# Altium integrated library NSC Switcher.IntLib: 2027 symbols (part 39 of 54)
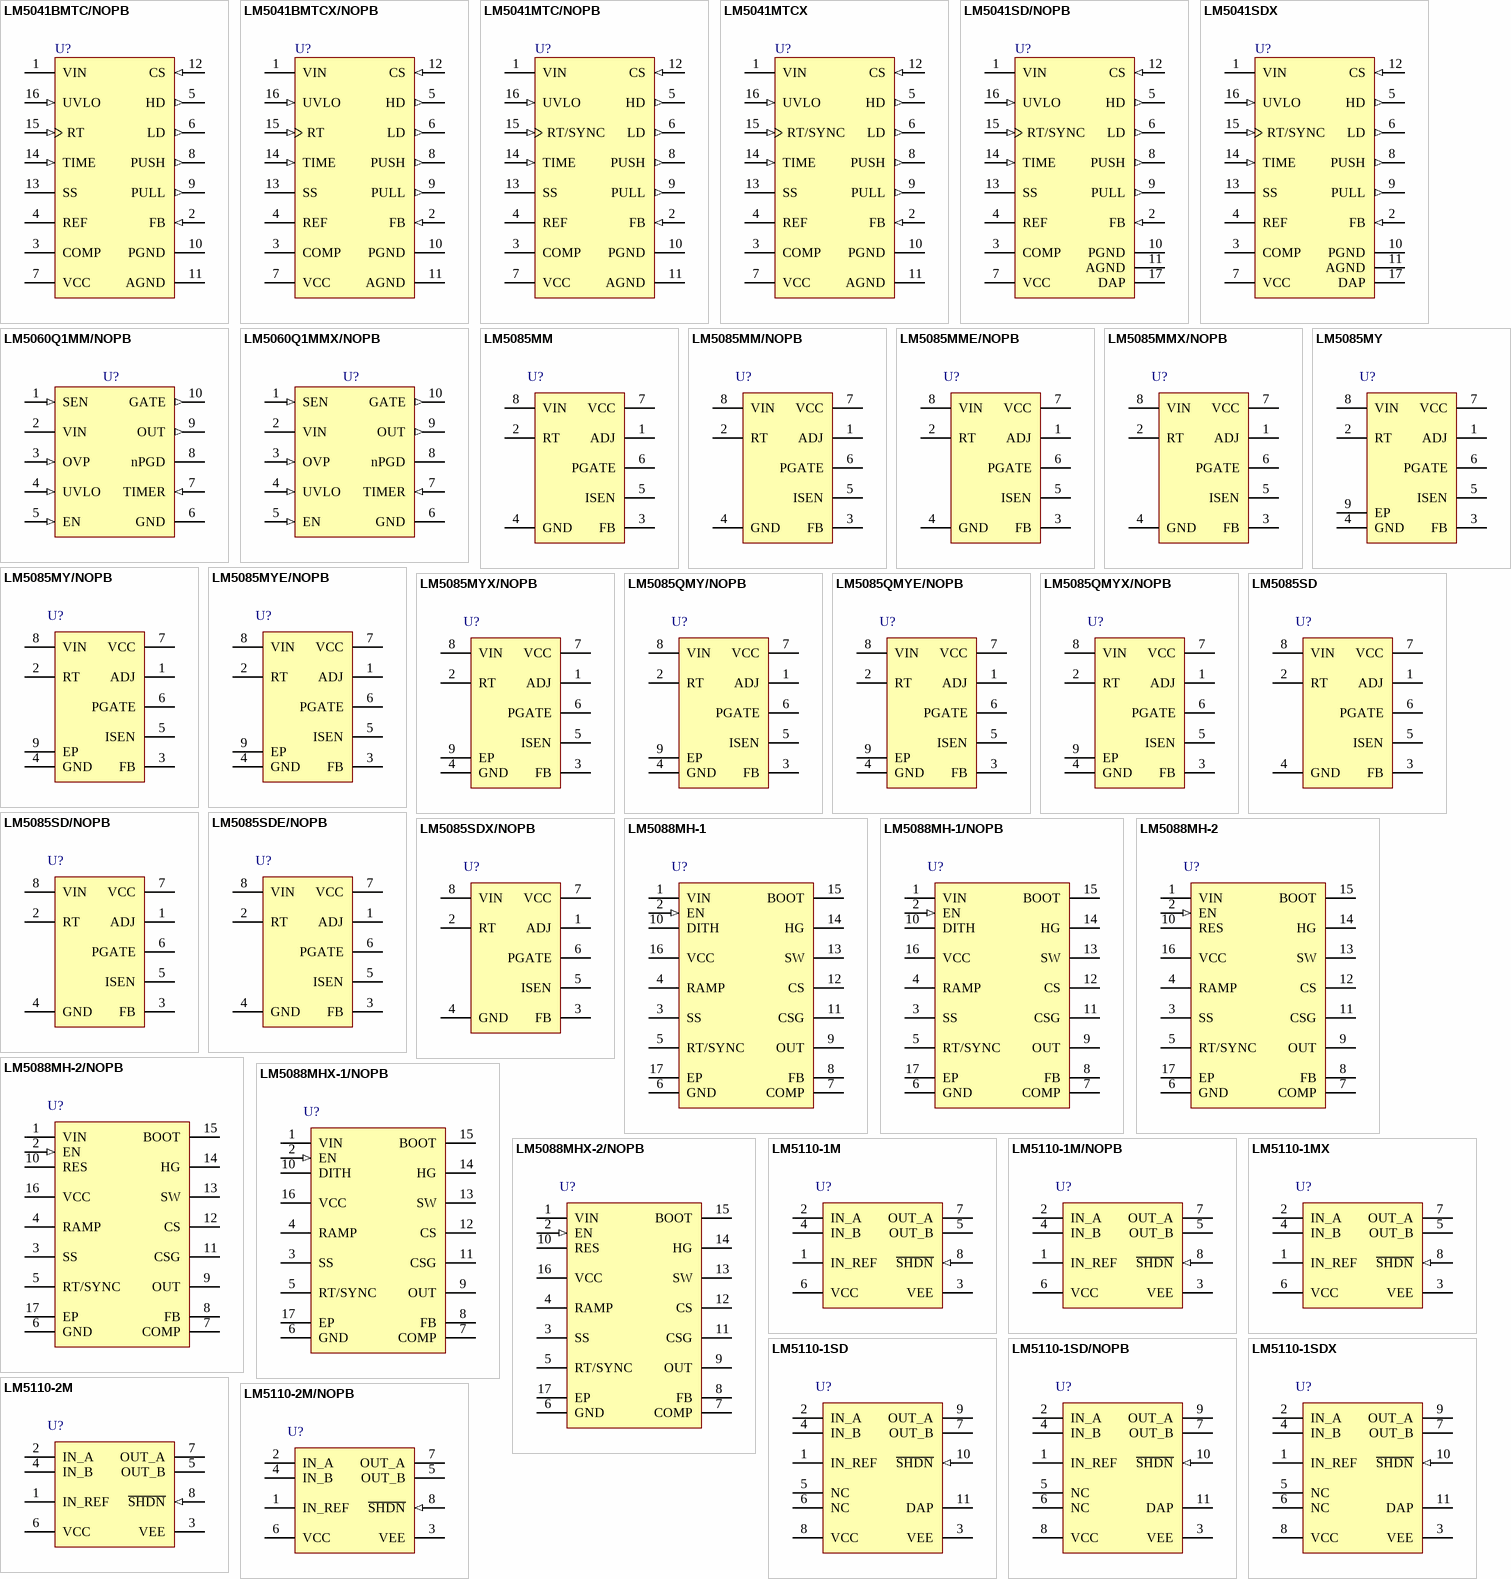
[diagram p101: symbols LM5041BMTC/NOPB to LM5110-2M/NOPB]

## LM5088MH-2
designator U?
Wide Input Range Non-Synchronous Buck Controller, 16-pin TSSOP-EP; PartNumber: LM5088MH-2; Manufacturer: National Semiconductor; PackageTopMarking: NSUZXYTT*LM5088*MH-2; PowerWise: Y; CompType: Switcher; Published: 29-May-2009; DatasheetVersion: Jun-2009; PackageVersion: revA, Apr-2003; PackageReference: MXA16A; Publisher: Altium Limited; PackageDescription: Molded TSSOP, Jedec, Exposed Pad, 5.0 x 4.4 x 0.9mm Body,16 Lead, 0.65mm Pitch; RoHS: Y; PinCount: 16; Code_JEDEC: MO-153-ABT; ComponentLink1Description: LM5088 Datasheet; ComponentLink1URL: http://www.national.com/ds/LM/LM5088.pdf; ComponentLink2Description: LM5088 Web Page; ComponentLink2URL: http://www.national.com/pf/LM/LM5088.html; ComponentLink3Description: MXA16A Package Page; ComponentLink3URL: http://www.national.com/packaging/folders/mxa16a.html
footprint MXA16A_N (TSOP, 16-Leads, Body 5x4.4mm, Pitch 0.65mm, Exposed Pad, IPC Medium Density)
footprint MXA16A_L (TSOP, 16-Leads, Body 5x4.4mm, Pitch 0.65mm, Exposed Pad, IPC High Density)
footprint MXA16A_M (TSOP, 16-Leads, Body 5x4.4mm, Pitch 0.65mm, Exposed Pad, IPC Low Density)
pins: 1 VIN, 2 EN (in), 3 SS, 4 RAMP, 5 RT/SYNC, 6 GND (power), 7 COMP (power), 8 FB (power), 9 OUT, 10 RES, 11 CSG (power), 12 CS, 13 SW (power), 14 HG (power), 15 BOOT, 16 VCC (power), 17 EP

## LM5088MH-2/NOPB
designator U?
Wide Input Range Non-Synchronous Buck Controller, 16-pin TSSOP-EP, Pb-Free; PartNumber: LM5088MH-2/NOPB; Manufacturer: National Semiconductor; PackageTopMarking: NSUZXYTT*LM5088*MH-2; PowerWise: Y; CompType: Switcher; Published: 1-Mar-2010; DatasheetVersion: Jun-2009; PackageVersion: revA, Apr-2003; PackageReference: MXA16A; Publisher: Altium Limited; PackageDescription: Molded TSSOP, Jedec, Exposed Pad, 5.0 x 4.4 x 0.9mm Body,16 Lead, 0.65mm Pitch; Supplier 1: Digi-Key; Supplier Part Number 1: LM5088MH-2-ND; Supplier 2: Farnell; Supplier Part Number 2: 1696600; RoHS: Y; PinCount: 16; Code_JEDEC: MO-153-ABT; ComponentLink1Description: LM5088 Datasheet; ComponentLink1URL: http://www.national.com/ds/LM/LM5088.pdf; ComponentLink2Description: LM5088 Web Page; ComponentLink2URL: http://www.national.com/pf/LM/LM5088.html; ComponentLink3Description: MXA16A Package Page; ComponentLink3URL: http://www.national.com/packaging/folders/mxa16a.html
footprint MXA16A_N (TSOP, 16-Leads, Body 5x4.4mm, Pitch 0.65mm, Exposed Pad, IPC Medium Density)
footprint MXA16A_L (TSOP, 16-Leads, Body 5x4.4mm, Pitch 0.65mm, Exposed Pad, IPC High Density)
footprint MXA16A_M (TSOP, 16-Leads, Body 5x4.4mm, Pitch 0.65mm, Exposed Pad, IPC Low Density)
pins: 1 VIN, 2 EN (in), 3 SS, 4 RAMP, 5 RT/SYNC, 6 GND (power), 7 COMP (power), 8 FB (power), 9 OUT, 10 RES, 11 CSG (power), 12 CS, 13 SW (power), 14 HG (power), 15 BOOT, 16 VCC (power), 17 EP

## LM5088MHX-1/NOPB
designator U?
Wide Input Range Non-Synchronous Buck Controller, 16-pin TSSOP-EP, Pb-Free; PartNumber: LM5088MHX-1/NOPB; Manufacturer: National Semiconductor; PackageTopMarking: NSUZXYTT*LM5088*MH-1; PowerWise: Y; CompType: Switcher; Published: 1-Mar-2010; DatasheetVersion: Jun-2009; PackageVersion: revA, Apr-2003; PackageReference: MXA16A; Publisher: Altium Limited; PackageDescription: Molded TSSOP, Jedec, Exposed Pad, 5.0 x 4.4 x 0.9mm Body,16 Lead, 0.65mm Pitch; Supplier 1: Digi-Key; Supplier Part Number 1: LM5088MHX-1-ND; RoHS: Y; PinCount: 16; Code_JEDEC: MO-153-ABT; ComponentLink1Description: LM5088 Datasheet; ComponentLink1URL: http://www.national.com/ds/LM/LM5088.pdf; ComponentLink2Description: LM5088 Web Page; ComponentLink2URL: http://www.national.com/pf/LM/LM5088.html; ComponentLink3Description: MXA16A Package Page; ComponentLink3URL: http://www.national.com/packaging/folders/mxa16a.html
footprint MXA16A_N (TSOP, 16-Leads, Body 5x4.4mm, Pitch 0.65mm, Exposed Pad, IPC Medium Density)
footprint MXA16A_L (TSOP, 16-Leads, Body 5x4.4mm, Pitch 0.65mm, Exposed Pad, IPC High Density)
footprint MXA16A_M (TSOP, 16-Leads, Body 5x4.4mm, Pitch 0.65mm, Exposed Pad, IPC Low Density)
pins: 1 VIN, 2 EN (in), 3 SS, 4 RAMP, 5 RT/SYNC, 6 GND (power), 7 COMP (power), 8 FB (power), 9 OUT, 10 DITH, 11 CSG (power), 12 CS, 13 SW (power), 14 HG (power), 15 BOOT, 16 VCC (power), 17 EP

## LM5088MHX-2/NOPB
designator U?
Wide Input Range Non-Synchronous Buck Controller, 16-pin TSSOP-EP, Pb-Free; PartNumber: LM5088MHX-2/NOPB; Manufacturer: National Semiconductor; PackageTopMarking: NSUZXYTT*LM5088*MH-2; PowerWise: Y; CompType: Switcher; Published: 1-Mar-2010; DatasheetVersion: Jun-2009; PackageVersion: revA, Apr-2003; PackageReference: MXA16A; Publisher: Altium Limited; PackageDescription: Molded TSSOP, Jedec, Exposed Pad, 5.0 x 4.4 x 0.9mm Body,16 Lead, 0.65mm Pitch; Supplier 1: Digi-Key; Supplier Part Number 1: LM5088MHX-2-ND; RoHS: Y; PinCount: 16; Code_JEDEC: MO-153-ABT; ComponentLink1Description: LM5088 Datasheet; ComponentLink1URL: http://www.national.com/ds/LM/LM5088.pdf; ComponentLink2Description: LM5088 Web Page; ComponentLink2URL: http://www.national.com/pf/LM/LM5088.html; ComponentLink3Description: MXA16A Package Page; ComponentLink3URL: http://www.national.com/packaging/folders/mxa16a.html
footprint MXA16A_N (TSOP, 16-Leads, Body 5x4.4mm, Pitch 0.65mm, Exposed Pad, IPC Medium Density)
footprint MXA16A_L (TSOP, 16-Leads, Body 5x4.4mm, Pitch 0.65mm, Exposed Pad, IPC High Density)
footprint MXA16A_M (TSOP, 16-Leads, Body 5x4.4mm, Pitch 0.65mm, Exposed Pad, IPC Low Density)
pins: 1 VIN, 2 EN (in), 3 SS, 4 RAMP, 5 RT/SYNC, 6 GND (power), 7 COMP (power), 8 FB (power), 9 OUT, 10 RES, 11 CSG (power), 12 CS, 13 SW (power), 14 HG (power), 15 BOOT, 16 VCC (power), 17 EP

## LM5110-1M
designator U?
Dual 5A Compound Gate Driver with Negative Output Voltage Capability, 8-pin Narrow SOIC; PartNumber: LM5110-1M; Manufacturer: National Semiconductor; PackageTopMarking: NSZXTT*5110*-1M; PowerWise: N; CompType: Switcher; Published: 4-Dec-2008; DatasheetVersion: Oct-2003; PackageVersion: revM, May-2009; PackageReference: M08A; Publisher: Altium Limited; PackageDescription: SOIC Narrow, 4.9 x 3.9 x 1.45mm, 8 Lead, 1.27mm Pitch; Supplier 1: Farnell; Supplier Part Number 1: 8181403; RoHS: N; PinCount: 8; Code_JEDEC: MS-012-AA; Code_IPC: SOIC127P600-8; ComponentLink1Description: LM5110 Datasheet; ComponentLink1URL: http://www.national.com/ds/LM/LM5110.pdf; ComponentLink2Description: LM5110 Web Page; ComponentLink2URL: http://www.national.com/pf/LM/LM5110.html; ComponentLink3Description: M08A Package Page; ComponentLink3URL: http://www.national.com/packaging/folders/m08a.html
footprint M08A_N (SOIC, 8-Leads, Body 4.9x3.9mm, Pitch 1.27mm, IPC Medium Density)
footprint M08A_L (SOIC, 8-Leads, Body 4.9x3.9mm, Pitch 1.27mm, IPC High Density)
footprint M08A_M (SOIC, 8-Leads, Body 4.9x3.9mm, Pitch 1.27mm, IPC Low Density)
pins: 1 IN_REF (power), 2 IN_A (power), 3 VEE (power), 4 IN_B (power), 5 OUT_B (power), 6 VCC (power), 7 OUT_A (power), 8 ~{SHDN} (in)

## LM5110-1M/NOPB
designator U?
Dual 5A Compound Gate Driver with Negative Output Voltage Capability, 8-pin Narrow SOIC, Pb-Free; PartNumber: LM5110-1M/NOPB; Manufacturer: National Semiconductor; PackageTopMarking: NSZXTT*5110*-1M; PowerWise: N; CompType: Switcher; Published: 1-Mar-2010; DatasheetVersion: Oct-2003; PackageVersion: revM, May-2009; PackageReference: M08A; Publisher: Altium Limited; PackageDescription: SOIC Narrow, 4.9 x 3.9 x 1.45mm, 8 Lead, 1.27mm Pitch; Supplier 1: Digi-Key; Supplier Part Number 1: LM5110-1M-ND; RoHS: Y; PinCount: 8; Code_JEDEC: MS-012-AA; Code_IPC: SOIC127P600-8; ComponentLink1Description: LM5110 Datasheet; ComponentLink1URL: http://www.national.com/ds/LM/LM5110.pdf; ComponentLink2Description: LM5110 Web Page; ComponentLink2URL: http://www.national.com/pf/LM/LM5110.html; ComponentLink3Description: M08A Package Page; ComponentLink3URL: http://www.national.com/packaging/folders/m08a.html
footprint M08A_N (SOIC, 8-Leads, Body 4.9x3.9mm, Pitch 1.27mm, IPC Medium Density)
footprint M08A_L (SOIC, 8-Leads, Body 4.9x3.9mm, Pitch 1.27mm, IPC High Density)
footprint M08A_M (SOIC, 8-Leads, Body 4.9x3.9mm, Pitch 1.27mm, IPC Low Density)
pins: 1 IN_REF (power), 2 IN_A (power), 3 VEE (power), 4 IN_B (power), 5 OUT_B (power), 6 VCC (power), 7 OUT_A (power), 8 ~{SHDN} (in)

## LM5110-1MX
designator U?
Dual 5A Compound Gate Driver with Negative Output Voltage Capability, 8-pin Narrow SOIC; PartNumber: LM5110-1MX; Manufacturer: National Semiconductor; PackageTopMarking: NSZXTT*5110*-1M; PowerWise: N; CompType: Switcher; Published: 1-Mar-2010; DatasheetVersion: Oct-2003; PackageVersion: revM, May-2009; PackageReference: M08A; Publisher: Altium Limited; PackageDescription: SOIC Narrow, 4.9 x 3.9 x 1.45mm, 8 Lead, 1.27mm Pitch; RoHS: N; PinCount: 8; Code_JEDEC: MS-012-AA; Code_IPC: SOIC127P600-8; ComponentLink1Description: LM5110 Datasheet; ComponentLink1URL: http://www.national.com/ds/LM/LM5110.pdf; ComponentLink2Description: LM5110 Web Page; ComponentLink2URL: http://www.national.com/pf/LM/LM5110.html; ComponentLink3Description: M08A Package Page; ComponentLink3URL: http://www.national.com/packaging/folders/m08a.html
footprint M08A_N (SOIC, 8-Leads, Body 4.9x3.9mm, Pitch 1.27mm, IPC Medium Density)
footprint M08A_L (SOIC, 8-Leads, Body 4.9x3.9mm, Pitch 1.27mm, IPC High Density)
footprint M08A_M (SOIC, 8-Leads, Body 4.9x3.9mm, Pitch 1.27mm, IPC Low Density)
pins: 1 IN_REF (power), 2 IN_A (power), 3 VEE (power), 4 IN_B (power), 5 OUT_B (power), 6 VCC (power), 7 OUT_A (power), 8 ~{SHDN} (in)

## LM5110-1SD
designator U?
Dual 5A Compound Gate Driver with Negative Output Voltage Capability, 10-pin LLP; PartNumber: LM5110-1SD; Manufacturer: National Semiconductor; PackageTopMarking: NS*UZXYTT*5110-1; PowerWise: N; CompType: Switcher; Published: 4-Dec-2008; DatasheetVersion: Oct-2003; PackageVersion: revA, May-2003; PackageReference: SDC10A; Publisher: Altium Limited; PackageDescription: LLP, Plastic, Dual, 4 x 4 x 0.8mm Body, 10 Lead, 0.8mm Pitch, No Pullback; Supplier 1: Digi-Key; Supplier Part Number 1: LM5110-1SDDKR-ND; RoHS: N; PinCount: 10; ComponentLink1Description: LM5110 Datasheet; ComponentLink1URL: http://www.national.com/ds/LM/LM5110.pdf; ComponentLink2Description: LM5110 Web Page; ComponentLink2URL: http://www.national.com/pf/LM/LM5110.html; ComponentLink3Description: SDC10A Package Page; ComponentLink3URL: http://www.national.com/packaging/folders/sdc10a.html
footprint SDC10A (SON, 10-Leads, Body 4x4 mm, Pitch 0.8mm, NSC Recommended)
pins: 1 IN_REF (power), 2 IN_A (power), 3 VEE (power), 4 IN_B (power), 5 NC, 6 NC, 7 OUT_B (power), 8 VCC (power), 9 OUT_A (power), 10 ~{SHDN} (in), 11 DAP (power)

## LM5110-1SD/NOPB
designator U?
Dual 5A Compound Gate Driver with Negative Output Voltage Capability, 10-pin LLP, Pb-Free; PartNumber: LM5110-1SD/NOPB; Manufacturer: National Semiconductor; PackageTopMarking: NS*UZXYTT*5110-1; PowerWise: N; CompType: Switcher; Published: 1-Mar-2010; DatasheetVersion: Oct-2003; PackageVersion: revA, May-2003; PackageReference: SDC10A; Publisher: Altium Limited; PackageDescription: LLP, Plastic, Dual, 4 x 4 x 0.8mm Body, 10 Lead, 0.8mm Pitch, No Pullback; Supplier 1: Digi-Key; Supplier Part Number 1: LM5110-1SDTR-ND; Supplier 2: Digi-Key; Supplier Part Number 2: LM5110-1SDCT-ND; RoHS: Y; PinCount: 10; ComponentLink1Description: LM5110 Datasheet; ComponentLink1URL: http://www.national.com/ds/LM/LM5110.pdf; ComponentLink2Description: LM5110 Web Page; ComponentLink2URL: http://www.national.com/pf/LM/LM5110.html; ComponentLink3Description: SDC10A Package Page; ComponentLink3URL: http://www.national.com/packaging/folders/sdc10a.html
footprint SDC10A (SON, 10-Leads, Body 4x4 mm, Pitch 0.8mm, NSC Recommended)
pins: 1 IN_REF (power), 2 IN_A (power), 3 VEE (power), 4 IN_B (power), 5 NC, 6 NC, 7 OUT_B (power), 8 VCC (power), 9 OUT_A (power), 10 ~{SHDN} (in), 11 DAP (power)

## LM5110-1SDX
designator U?
Dual 5A Compound Gate Driver with Negative Output Voltage Capability, 10-pin LLP; PartNumber: LM5110-1SDX; Manufacturer: National Semiconductor; PackageTopMarking: NS*UZXYTT*5110-1; PowerWise: N; CompType: Switcher; Published: 1-Mar-2010; DatasheetVersion: Oct-2003; PackageVersion: revA, May-2003; PackageReference: SDC10A; Publisher: Altium Limited; PackageDescription: LLP, Plastic, Dual, 4 x 4 x 0.8mm Body, 10 Lead, 0.8mm Pitch, No Pullback; RoHS: N; PinCount: 10; ComponentLink1Description: LM5110 Datasheet; ComponentLink1URL: http://www.national.com/ds/LM/LM5110.pdf; ComponentLink2Description: LM5110 Web Page; ComponentLink2URL: http://www.national.com/pf/LM/LM5110.html; ComponentLink3Description: SDC10A Package Page; ComponentLink3URL: http://www.national.com/packaging/folders/sdc10a.html
footprint SDC10A (SON, 10-Leads, Body 4x4 mm, Pitch 0.8mm, NSC Recommended)
pins: 1 IN_REF (power), 2 IN_A (power), 3 VEE (power), 4 IN_B (power), 5 NC, 6 NC, 7 OUT_B (power), 8 VCC (power), 9 OUT_A (power), 10 ~{SHDN} (in), 11 DAP (power)

## LM5110-2M
designator U?
Dual 5A Compound Gate Driver with Negative Output Voltage Capability, 8-pin Narrow SOIC; PartNumber: LM5110-2M; Manufacturer: National Semiconductor; PackageTopMarking: NSZXTT*5110*-2M; PowerWise: N; CompType: Switcher; Published: 4-Dec-2008; DatasheetVersion: Oct-2003; PackageVersion: revM, May-2009; PackageReference: M08A; Publisher: Altium Limited; PackageDescription: SOIC Narrow, 4.9 x 3.9 x 1.45mm, 8 Lead, 1.27mm Pitch; Supplier 1: Farnell; Supplier Part Number 1: 8181411; RoHS: N; PinCount: 8; Code_JEDEC: MS-012-AA; Code_IPC: SOIC127P600-8; ComponentLink1Description: LM5110 Datasheet; ComponentLink1URL: http://www.national.com/ds/LM/LM5110.pdf; ComponentLink2Description: LM5110 Web Page; ComponentLink2URL: http://www.national.com/pf/LM/LM5110.html; ComponentLink3Description: M08A Package Page; ComponentLink3URL: http://www.national.com/packaging/folders/m08a.html
footprint M08A_N (SOIC, 8-Leads, Body 4.9x3.9mm, Pitch 1.27mm, IPC Medium Density)
footprint M08A_L (SOIC, 8-Leads, Body 4.9x3.9mm, Pitch 1.27mm, IPC High Density)
footprint M08A_M (SOIC, 8-Leads, Body 4.9x3.9mm, Pitch 1.27mm, IPC Low Density)
pins: 1 IN_REF (power), 2 IN_A (power), 3 VEE (power), 4 IN_B (power), 5 OUT_B (power), 6 VCC (power), 7 OUT_A (power), 8 ~{SHDN} (in)

## LM5110-2M/NOPB
designator U?
Dual 5A Compound Gate Driver with Negative Output Voltage Capability, 8-pin Narrow SOIC, Pb-Free; PartNumber: LM5110-2M/NOPB; Manufacturer: National Semiconductor; PackageTopMarking: NSZXTT*5110*-2M; PowerWise: N; CompType: Switcher; Published: 1-Mar-2010; DatasheetVersion: Oct-2003; PackageVersion: revM, May-2009; PackageReference: M08A; Publisher: Altium Limited; PackageDescription: SOIC Narrow, 4.9 x 3.9 x 1.45mm, 8 Lead, 1.27mm Pitch; Supplier 1: Digi-Key; Supplier Part Number 1: LM5110-2M-ND; Supplier 2: Farnell; Supplier Part Number 2: 1559518; RoHS: Y; PinCount: 8; Code_JEDEC: MS-012-AA; Code_IPC: SOIC127P600-8; ComponentLink1Description: LM5110 Datasheet; ComponentLink1URL: http://www.national.com/ds/LM/LM5110.pdf; ComponentLink2Description: LM5110 Web Page; ComponentLink2URL: http://www.national.com/pf/LM/LM5110.html; ComponentLink3Description: M08A Package Page; ComponentLink3URL: http://www.national.com/packaging/folders/m08a.html
footprint M08A_N (SOIC, 8-Leads, Body 4.9x3.9mm, Pitch 1.27mm, IPC Medium Density)
footprint M08A_L (SOIC, 8-Leads, Body 4.9x3.9mm, Pitch 1.27mm, IPC High Density)
footprint M08A_M (SOIC, 8-Leads, Body 4.9x3.9mm, Pitch 1.27mm, IPC Low Density)
pins: 1 IN_REF (power), 2 IN_A (power), 3 VEE (power), 4 IN_B (power), 5 OUT_B (power), 6 VCC (power), 7 OUT_A (power), 8 ~{SHDN} (in)

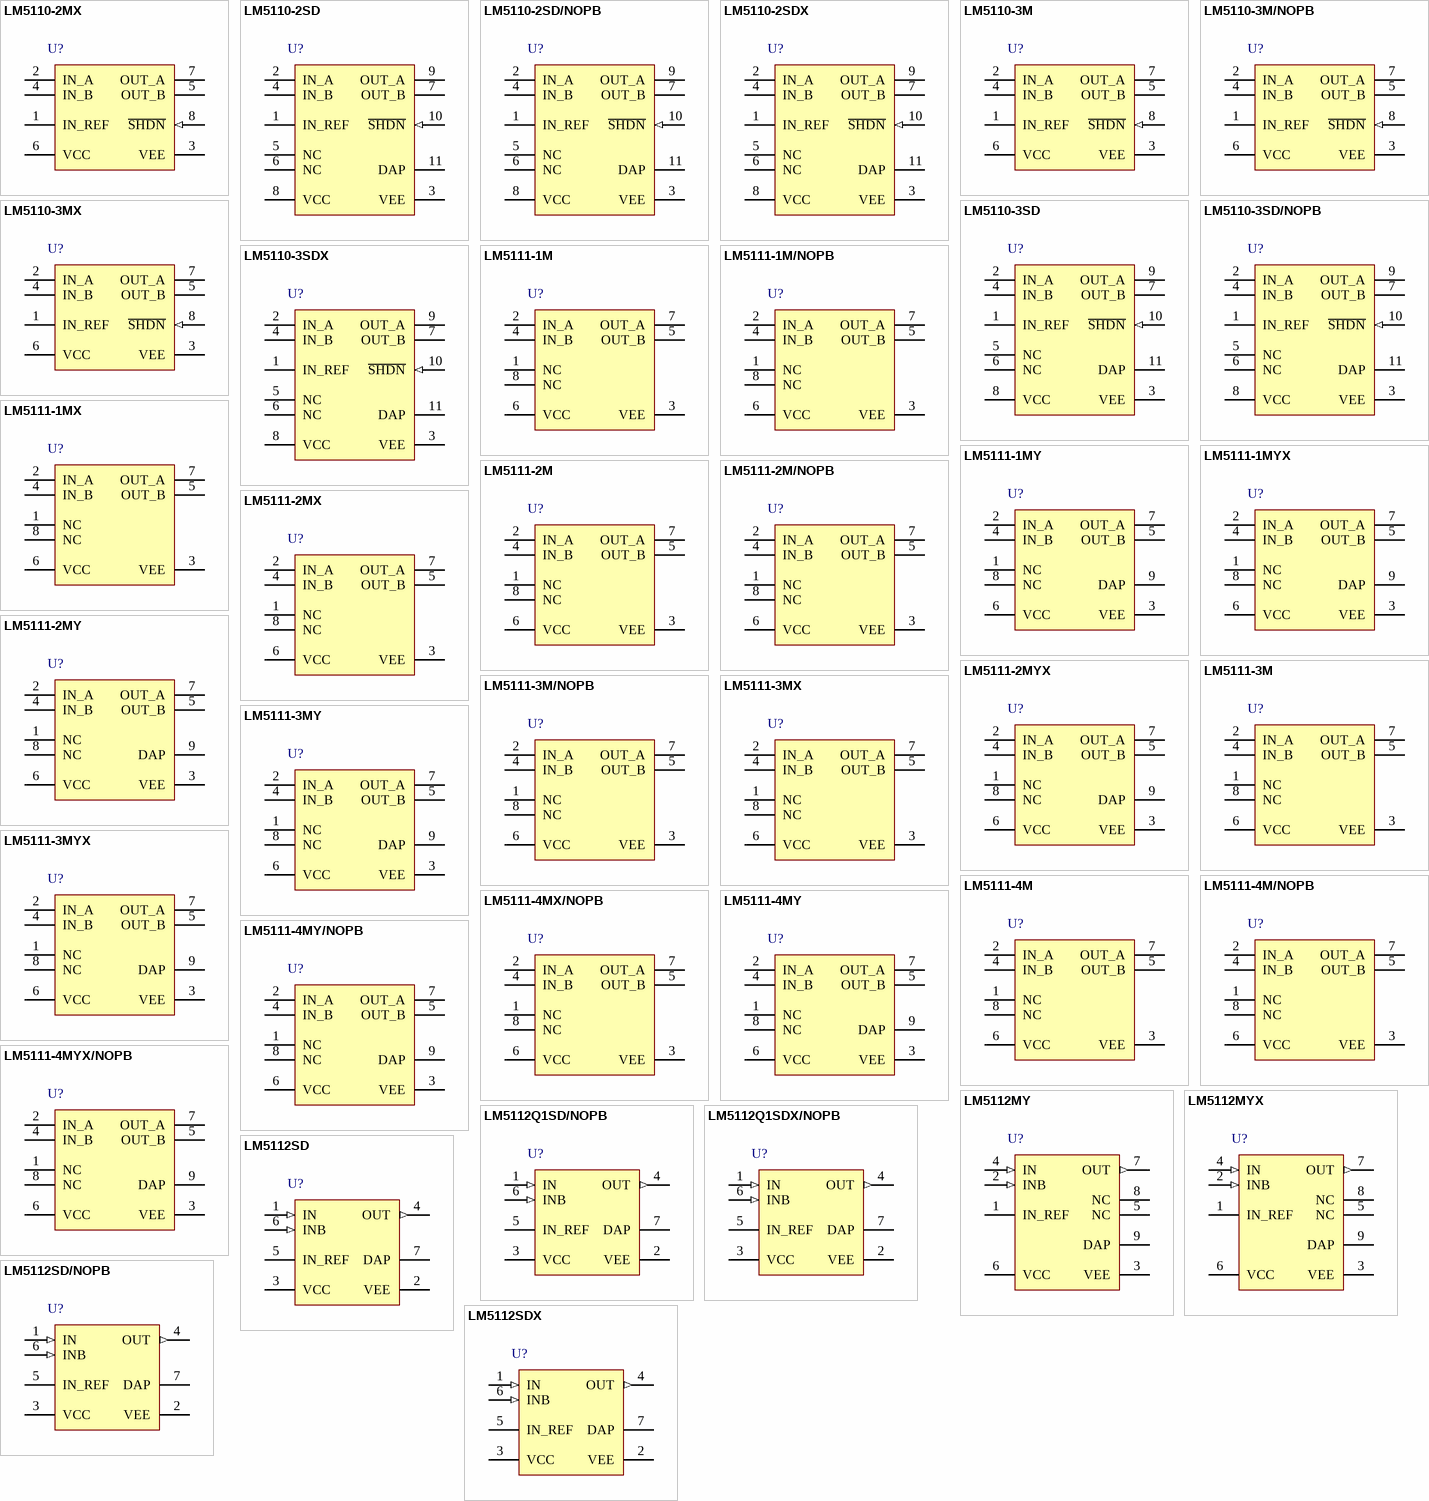
[diagram p43: symbols LM5110-2MX to LM5112SDX]

## LM5110-2MX
designator U?
Dual 5A Compound Gate Driver with Negative Output Voltage Capability, 8-pin Narrow SOIC; PartNumber: LM5110-2MX; Manufacturer: National Semiconductor; PackageTopMarking: NSZXTT*5110*-2M; PowerWise: N; CompType: Switcher; Published: 1-Mar-2010; DatasheetVersion: Oct-2003; PackageVersion: revM, May-2009; PackageReference: M08A; Publisher: Altium Limited; PackageDescription: SOIC Narrow, 4.9 x 3.9 x 1.45mm, 8 Lead, 1.27mm Pitch; RoHS: N; PinCount: 8; Code_JEDEC: MS-012-AA; Code_IPC: SOIC127P600-8; ComponentLink1Description: LM5110 Datasheet; ComponentLink1URL: http://www.national.com/ds/LM/LM5110.pdf; ComponentLink2Description: LM5110 Web Page; ComponentLink2URL: http://www.national.com/pf/LM/LM5110.html; ComponentLink3Description: M08A Package Page; ComponentLink3URL: http://www.national.com/packaging/folders/m08a.html
footprint M08A_N (SOIC, 8-Leads, Body 4.9x3.9mm, Pitch 1.27mm, IPC Medium Density)
footprint M08A_L (SOIC, 8-Leads, Body 4.9x3.9mm, Pitch 1.27mm, IPC High Density)
footprint M08A_M (SOIC, 8-Leads, Body 4.9x3.9mm, Pitch 1.27mm, IPC Low Density)
pins: 1 IN_REF (power), 2 IN_A (power), 3 VEE (power), 4 IN_B (power), 5 OUT_B (power), 6 VCC (power), 7 OUT_A (power), 8 ~{SHDN} (in)

## LM5110-2SD
designator U?
Dual 5A Compound Gate Driver with Negative Output Voltage Capability, 10-pin LLP; PartNumber: LM5110-2SD; Manufacturer: National Semiconductor; PackageTopMarking: NS*UZXYTT*5110-2; PowerWise: N; CompType: Switcher; Published: 4-Dec-2008; DatasheetVersion: Oct-2003; PackageVersion: revA, May-2003; PackageReference: SDC10A; Publisher: Altium Limited; PackageDescription: LLP, Plastic, Dual, 4 x 4 x 0.8mm Body, 10 Lead, 0.8mm Pitch, No Pullback; Supplier 1: Farnell; Supplier Part Number 1: 1008271; RoHS: N; PinCount: 10; ComponentLink1Description: LM5110 Datasheet; ComponentLink1URL: http://www.national.com/ds/LM/LM5110.pdf; ComponentLink2Description: LM5110 Web Page; ComponentLink2URL: http://www.national.com/pf/LM/LM5110.html; ComponentLink3Description: SDC10A Package Page; ComponentLink3URL: http://www.national.com/packaging/folders/sdc10a.html
footprint SDC10A (SON, 10-Leads, Body 4x4 mm, Pitch 0.8mm, NSC Recommended)
pins: 1 IN_REF (power), 2 IN_A (power), 3 VEE (power), 4 IN_B (power), 5 NC, 6 NC, 7 OUT_B (power), 8 VCC (power), 9 OUT_A (power), 10 ~{SHDN} (in), 11 DAP (power)

## LM5110-2SD/NOPB
designator U?
Dual 5A Compound Gate Driver with Negative Output Voltage Capability, 10-pin LLP, Pb-Free; PartNumber: LM5110-2SD/NOPB; Manufacturer: National Semiconductor; PackageTopMarking: NS*UZXYTT*5110-2; PowerWise: N; CompType: Switcher; Published: 1-Mar-2010; DatasheetVersion: Oct-2003; PackageVersion: revA, May-2003; PackageReference: SDC10A; Publisher: Altium Limited; PackageDescription: LLP, Plastic, Dual, 4 x 4 x 0.8mm Body, 10 Lead, 0.8mm Pitch, No Pullback; Supplier 1: Digi-Key; Supplier Part Number 1: LM5110-2SDTR-ND; Supplier 2: Digi-Key; Supplier Part Number 2: LM5110-2SDCT-ND; Supplier 3: Digi-Key; Supplier Part Number 3: LM5110-2SDDKR-ND; RoHS: Y; PinCount: 10; ComponentLink1Description: LM5110 Datasheet; ComponentLink1URL: http://www.national.com/ds/LM/LM5110.pdf; ComponentLink2Description: LM5110 Web Page; ComponentLink2URL: http://www.national.com/pf/LM/LM5110.html; ComponentLink3Description: SDC10A Package Page; ComponentLink3URL: http://www.national.com/packaging/folders/sdc10a.html
footprint SDC10A (SON, 10-Leads, Body 4x4 mm, Pitch 0.8mm, NSC Recommended)
pins: 1 IN_REF (power), 2 IN_A (power), 3 VEE (power), 4 IN_B (power), 5 NC, 6 NC, 7 OUT_B (power), 8 VCC (power), 9 OUT_A (power), 10 ~{SHDN} (in), 11 DAP (power)

## LM5110-2SDX
designator U?
Dual 5A Compound Gate Driver with Negative Output Voltage Capability, 10-pin LLP; PartNumber: LM5110-2SDX; Manufacturer: National Semiconductor; PackageTopMarking: NS*UZXYTT*5110-2; PowerWise: N; CompType: Switcher; Published: 1-Mar-2010; DatasheetVersion: Oct-2003; PackageVersion: revA, May-2003; PackageReference: SDC10A; Publisher: Altium Limited; PackageDescription: LLP, Plastic, Dual, 4 x 4 x 0.8mm Body, 10 Lead, 0.8mm Pitch, No Pullback; RoHS: N; PinCount: 10; ComponentLink1Description: LM5110 Datasheet; ComponentLink1URL: http://www.national.com/ds/LM/LM5110.pdf; ComponentLink2Description: LM5110 Web Page; ComponentLink2URL: http://www.national.com/pf/LM/LM5110.html; ComponentLink3Description: SDC10A Package Page; ComponentLink3URL: http://www.national.com/packaging/folders/sdc10a.html
footprint SDC10A (SON, 10-Leads, Body 4x4 mm, Pitch 0.8mm, NSC Recommended)
pins: 1 IN_REF (power), 2 IN_A (power), 3 VEE (power), 4 IN_B (power), 5 NC, 6 NC, 7 OUT_B (power), 8 VCC (power), 9 OUT_A (power), 10 ~{SHDN} (in), 11 DAP (power)

## LM5110-3M
designator U?
Dual 5A Compound Gate Driver with Negative Output Voltage Capability, 8-pin Narrow SOIC; PartNumber: LM5110-3M; Manufacturer: National Semiconductor; PackageTopMarking: NSZXTT*5110*-3M; PowerWise: N; CompType: Switcher; Published: 4-Dec-2008; DatasheetVersion: Oct-2003; PackageVersion: revM, May-2009; PackageReference: M08A; Publisher: Altium Limited; PackageDescription: SOIC Narrow, 4.9 x 3.9 x 1.45mm, 8 Lead, 1.27mm Pitch; Supplier 1: Farnell; Supplier Part Number 1: 8181420; RoHS: N; PinCount: 8; Code_JEDEC: MS-012-AA; Code_IPC: SOIC127P600-8; ComponentLink1Description: LM5110 Datasheet; ComponentLink1URL: http://www.national.com/ds/LM/LM5110.pdf; ComponentLink2Description: LM5110 Web Page; ComponentLink2URL: http://www.national.com/pf/LM/LM5110.html; ComponentLink3Description: M08A Package Page; ComponentLink3URL: http://www.national.com/packaging/folders/m08a.html
footprint M08A_N (SOIC, 8-Leads, Body 4.9x3.9mm, Pitch 1.27mm, IPC Medium Density)
footprint M08A_L (SOIC, 8-Leads, Body 4.9x3.9mm, Pitch 1.27mm, IPC High Density)
footprint M08A_M (SOIC, 8-Leads, Body 4.9x3.9mm, Pitch 1.27mm, IPC Low Density)
pins: 1 IN_REF (power), 2 IN_A (power), 3 VEE (power), 4 IN_B (power), 5 OUT_B (power), 6 VCC (power), 7 OUT_A (power), 8 ~{SHDN} (in)

## LM5110-3M/NOPB
designator U?
Dual 5A Compound Gate Driver with Negative Output Voltage Capability, 8-pin Narrow SOIC, Pb-Free; PartNumber: LM5110-3M/NOPB; Manufacturer: National Semiconductor; PackageTopMarking: NSZXTT*5110*-3M; PowerWise: N; CompType: Switcher; Published: 1-Mar-2010; DatasheetVersion: Oct-2003; PackageVersion: revM, May-2009; PackageReference: M08A; Publisher: Altium Limited; PackageDescription: SOIC Narrow, 4.9 x 3.9 x 1.45mm, 8 Lead, 1.27mm Pitch; Supplier 1: Digi-Key; Supplier Part Number 1: LM5110-3M-ND; RoHS: Y; PinCount: 8; Code_JEDEC: MS-012-AA; Code_IPC: SOIC127P600-8; ComponentLink1Description: LM5110 Datasheet; ComponentLink1URL: http://www.national.com/ds/LM/LM5110.pdf; ComponentLink2Description: LM5110 Web Page; ComponentLink2URL: http://www.national.com/pf/LM/LM5110.html; ComponentLink3Description: M08A Package Page; ComponentLink3URL: http://www.national.com/packaging/folders/m08a.html
footprint M08A_N (SOIC, 8-Leads, Body 4.9x3.9mm, Pitch 1.27mm, IPC Medium Density)
footprint M08A_L (SOIC, 8-Leads, Body 4.9x3.9mm, Pitch 1.27mm, IPC High Density)
footprint M08A_M (SOIC, 8-Leads, Body 4.9x3.9mm, Pitch 1.27mm, IPC Low Density)
pins: 1 IN_REF (power), 2 IN_A (power), 3 VEE (power), 4 IN_B (power), 5 OUT_B (power), 6 VCC (power), 7 OUT_A (power), 8 ~{SHDN} (in)

## LM5110-3MX
designator U?
Dual 5A Compound Gate Driver with Negative Output Voltage Capability, 8-pin Narrow SOIC; PartNumber: LM5110-3MX; Manufacturer: National Semiconductor; PackageTopMarking: NSZXTT*5110*-3M; PowerWise: N; CompType: Switcher; Published: 1-Mar-2010; DatasheetVersion: Oct-2003; PackageVersion: revM, May-2009; PackageReference: M08A; Publisher: Altium Limited; PackageDescription: SOIC Narrow, 4.9 x 3.9 x 1.45mm, 8 Lead, 1.27mm Pitch; RoHS: N; PinCount: 8; Code_JEDEC: MS-012-AA; Code_IPC: SOIC127P600-8; ComponentLink1Description: LM5110 Datasheet; ComponentLink1URL: http://www.national.com/ds/LM/LM5110.pdf; ComponentLink2Description: LM5110 Web Page; ComponentLink2URL: http://www.national.com/pf/LM/LM5110.html; ComponentLink3Description: M08A Package Page; ComponentLink3URL: http://www.national.com/packaging/folders/m08a.html
footprint M08A_N (SOIC, 8-Leads, Body 4.9x3.9mm, Pitch 1.27mm, IPC Medium Density)
footprint M08A_L (SOIC, 8-Leads, Body 4.9x3.9mm, Pitch 1.27mm, IPC High Density)
footprint M08A_M (SOIC, 8-Leads, Body 4.9x3.9mm, Pitch 1.27mm, IPC Low Density)
pins: 1 IN_REF (power), 2 IN_A (power), 3 VEE (power), 4 IN_B (power), 5 OUT_B (power), 6 VCC (power), 7 OUT_A (power), 8 ~{SHDN} (in)

## LM5110-3SD
designator U?
Dual 5A Compound Gate Driver with Negative Output Voltage Capability, 10-pin LLP; PartNumber: LM5110-3SD; Manufacturer: National Semiconductor; PackageTopMarking: NS*UZXYTT*5110-3; PowerWise: N; CompType: Switcher; Published: 4-Dec-2008; DatasheetVersion: Oct-2003; PackageVersion: revA, May-2003; PackageReference: SDC10A; Publisher: Altium Limited; PackageDescription: LLP, Plastic, Dual, 4 x 4 x 0.8mm Body, 10 Lead, 0.8mm Pitch, No Pullback; RoHS: N; PinCount: 10; ComponentLink1Description: LM5110 Datasheet; ComponentLink1URL: http://www.national.com/ds/LM/LM5110.pdf; ComponentLink2Description: LM5110 Web Page; ComponentLink2URL: http://www.national.com/pf/LM/LM5110.html; ComponentLink3Description: SDC10A Package Page; ComponentLink3URL: http://www.national.com/packaging/folders/sdc10a.html
footprint SDC10A (SON, 10-Leads, Body 4x4 mm, Pitch 0.8mm, NSC Recommended)
pins: 1 IN_REF (power), 2 IN_A (power), 3 VEE (power), 4 IN_B (power), 5 NC, 6 NC, 7 OUT_B (power), 8 VCC (power), 9 OUT_A (power), 10 ~{SHDN} (in), 11 DAP (power)

## LM5110-3SD/NOPB
designator U?
Dual 5A Compound Gate Driver with Negative Output Voltage Capability, 10-pin LLP, Pb-Free; PartNumber: LM5110-3SD/NOPB; Manufacturer: National Semiconductor; PackageTopMarking: NS*UZXYTT*5110-3; PowerWise: N; CompType: Switcher; Published: 1-Mar-2010; DatasheetVersion: Oct-2003; PackageVersion: revA, May-2003; PackageReference: SDC10A; Publisher: Altium Limited; PackageDescription: LLP, Plastic, Dual, 4 x 4 x 0.8mm Body, 10 Lead, 0.8mm Pitch, No Pullback; Supplier 1: Digi-Key; Supplier Part Number 1: LM5110-3SDTR-ND; Supplier 2: Digi-Key; Supplier Part Number 2: LM5110-3SDCT-ND; Supplier 3: Digi-Key; Supplier Part Number 3: LM5110-3SDDKR-ND; RoHS: Y; PinCount: 10; ComponentLink1Description: LM5110 Datasheet; ComponentLink1URL: http://www.national.com/ds/LM/LM5110.pdf; ComponentLink2Description: LM5110 Web Page; ComponentLink2URL: http://www.national.com/pf/LM/LM5110.html; ComponentLink3Description: SDC10A Package Page; ComponentLink3URL: http://www.national.com/packaging/folders/sdc10a.html
footprint SDC10A (SON, 10-Leads, Body 4x4 mm, Pitch 0.8mm, NSC Recommended)
pins: 1 IN_REF (power), 2 IN_A (power), 3 VEE (power), 4 IN_B (power), 5 NC, 6 NC, 7 OUT_B (power), 8 VCC (power), 9 OUT_A (power), 10 ~{SHDN} (in), 11 DAP (power)

## LM5110-3SDX
designator U?
Dual 5A Compound Gate Driver with Negative Output Voltage Capability, 10-pin LLP; PartNumber: LM5110-3SDX; Manufacturer: National Semiconductor; PackageTopMarking: NS*UZXYTT*5110-3; PowerWise: N; CompType: Switcher; Published: 1-Mar-2010; DatasheetVersion: Oct-2003; PackageVersion: revA, May-2003; PackageReference: SDC10A; Publisher: Altium Limited; PackageDescription: LLP, Plastic, Dual, 4 x 4 x 0.8mm Body, 10 Lead, 0.8mm Pitch, No Pullback; RoHS: N; PinCount: 10; ComponentLink1Description: LM5110 Datasheet; ComponentLink1URL: http://www.national.com/ds/LM/LM5110.pdf; ComponentLink2Description: LM5110 Web Page; ComponentLink2URL: http://www.national.com/pf/LM/LM5110.html; ComponentLink3Description: SDC10A Package Page; ComponentLink3URL: http://www.national.com/packaging/folders/sdc10a.html
footprint SDC10A (SON, 10-Leads, Body 4x4 mm, Pitch 0.8mm, NSC Recommended)
pins: 1 IN_REF (power), 2 IN_A (power), 3 VEE (power), 4 IN_B (power), 5 NC, 6 NC, 7 OUT_B (power), 8 VCC (power), 9 OUT_A (power), 10 ~{SHDN} (in), 11 DAP (power)

## LM5111-1M
designator U?
Dual 5A Compound Gate Driver, 8-pin Narrow SOIC; PartNumber: LM5111-1M; Manufacturer: National Semiconductor; PackageTopMarking: NSXYTT*5111*-1M; PowerWise: N; CompType: Switcher; Published: 4-Dec-2008; DatasheetVersion: Nov-2007; PackageVersion: revM, May-2009; PackageReference: M08A; Publisher: Altium Limited; PackageDescription: SOIC Narrow, 4.9 x 3.9 x 1.45mm, 8 Lead, 1.27mm Pitch; Supplier 1: Farnell; Supplier Part Number 1: 8238693; RoHS: N; PinCount: 8; Code_JEDEC: MS-012-AA; Code_IPC: SOIC127P600-8; ComponentLink1Description: LM5111 Datasheet; ComponentLink1URL: http://www.national.com/ds/LM/LM5111.pdf; ComponentLink2Description: LM5111 Web Page; ComponentLink2URL: http://www.national.com/pf/LM/LM5111.html; ComponentLink3Description: M08A Package Page; ComponentLink3URL: http://www.national.com/packaging/folders/m08a.html
footprint M08A_N (SOIC, 8-Leads, Body 4.9x3.9mm, Pitch 1.27mm, IPC Medium Density)
footprint M08A_L (SOIC, 8-Leads, Body 4.9x3.9mm, Pitch 1.27mm, IPC High Density)
footprint M08A_M (SOIC, 8-Leads, Body 4.9x3.9mm, Pitch 1.27mm, IPC Low Density)
pins: 1 NC, 2 IN_A (power), 3 VEE (power), 4 IN_B (power), 5 OUT_B (power), 6 VCC (power), 7 OUT_A (power), 8 NC

## LM5111-1M/NOPB
designator U?
Dual 5A Compound Gate Driver, 8-pin Narrow SOIC, Pb-Free; PartNumber: LM5111-1M/NOPB; Manufacturer: National Semiconductor; PackageTopMarking: NSXYTT*5111*-1M; PowerWise: N; CompType: Switcher; Published: 1-Mar-2010; DatasheetVersion: Nov-2007; PackageVersion: revM, May-2009; PackageReference: M08A; Publisher: Altium Limited; PackageDescription: SOIC Narrow, 4.9 x 3.9 x 1.45mm, 8 Lead, 1.27mm Pitch; Supplier 1: Digi-Key; Supplier Part Number 1: LM5111-1M-ND; Supplier 2: Farnell; Supplier Part Number 2: 1559519; RoHS: Y; PinCount: 8; Code_JEDEC: MS-012-AA; Code_IPC: SOIC127P600-8; ComponentLink1Description: LM5111 Datasheet; ComponentLink1URL: http://www.national.com/ds/LM/LM5111.pdf; ComponentLink2Description: LM5111 Web Page; ComponentLink2URL: http://www.national.com/pf/LM/LM5111.html; ComponentLink3Description: M08A Package Page; ComponentLink3URL: http://www.national.com/packaging/folders/m08a.html
footprint M08A_N (SOIC, 8-Leads, Body 4.9x3.9mm, Pitch 1.27mm, IPC Medium Density)
footprint M08A_L (SOIC, 8-Leads, Body 4.9x3.9mm, Pitch 1.27mm, IPC High Density)
footprint M08A_M (SOIC, 8-Leads, Body 4.9x3.9mm, Pitch 1.27mm, IPC Low Density)
pins: 1 NC, 2 IN_A (power), 3 VEE (power), 4 IN_B (power), 5 OUT_B (power), 6 VCC (power), 7 OUT_A (power), 8 NC

## LM5111-1MX
designator U?
Dual 5A Compound Gate Driver, 8-pin Narrow SOIC; PartNumber: LM5111-1MX; Manufacturer: National Semiconductor; PackageTopMarking: NSZXTT*5111*-1M; PowerWise: N; CompType: Switcher; Published: 4-Dec-2008; DatasheetVersion: Nov-2007; PackageVersion: revM, May-2009; PackageReference: M08A; Publisher: Altium Limited; PackageDescription: SOIC Narrow, 4.9 x 3.9 x 1.45mm, 8 Lead, 1.27mm Pitch; Supplier 1: Digi-Key; Supplier Part Number 1: LM5111-1MX-ND; RoHS: N; PinCount: 8; Code_JEDEC: MS-012-AA; Code_IPC: SOIC127P600-8; ComponentLink1Description: LM5111 Datasheet; ComponentLink1URL: http://www.national.com/ds/LM/LM5111.pdf; ComponentLink2Description: LM5111 Web Page; ComponentLink2URL: http://www.national.com/pf/LM/LM5111.html; ComponentLink3Description: M08A Package Page; ComponentLink3URL: http://www.national.com/packaging/folders/m08a.html
footprint M08A_N (SOIC, 8-Leads, Body 4.9x3.9mm, Pitch 1.27mm, IPC Medium Density)
footprint M08A_L (SOIC, 8-Leads, Body 4.9x3.9mm, Pitch 1.27mm, IPC High Density)
footprint M08A_M (SOIC, 8-Leads, Body 4.9x3.9mm, Pitch 1.27mm, IPC Low Density)
pins: 1 NC, 2 IN_A (power), 3 VEE (power), 4 IN_B (power), 5 OUT_B (power), 6 VCC (power), 7 OUT_A (power), 8 NC

## LM5111-1MY
designator U?
Dual 5A Compound Gate Driver, 8-pin eMSOP; PartNumber: LM5111-1MY; Manufacturer: National Semiconductor; PackageTopMarking: ZXTT*SJKB; PowerWise: N; CompType: Switcher; Published: 4-Dec-2008; DatasheetVersion: Nov-2007; PackageVersion: revA, Nov-2003; PackageReference: MUY08A; Publisher: Altium Limited; PackageDescription: Molded Mini-SO, Exposed Pad, .118 x .118 x .034in Body, 8 Lead, .0256in Pitch; Supplier 1: Farnell; Supplier Part Number 1: 1312593; RoHS: N; PinCount: 8; Code_JEDEC: MO-187-AA; ComponentLink1Description: LM5111 Datasheet; ComponentLink1URL: http://www.national.com/ds/LM/LM5111.pdf; ComponentLink2Description: LM5111 Web Page; ComponentLink2URL: http://www.national.com/pf/LM/LM5111.html; ComponentLink3Description: MUY08A Package Page; ComponentLink3URL: http://www.national.com/packaging/folders/muy08a.html
footprint MUY08A_N (TSOP, 8-Leads, Body 3x3mm, Pitch 0.65mm, Exposed Pad, IPC Medium Density)
footprint MUY08A_L (TSOP, 8-Leads, Body 3x3mm, Pitch 0.65mm, Exposed Pad, IPC High Density)
footprint MUY08A_M (TSOP, 8-Leads, Body 3x3mm, Pitch 0.65mm, Exposed Pad, IPC Low Density)
pins: 1 NC, 2 IN_A (power), 3 VEE (power), 4 IN_B (power), 5 OUT_B (power), 6 VCC (power), 7 OUT_A (power), 8 NC, 9 DAP (power)

## LM5111-1MYX
designator U?
Dual 5A Compound Gate Driver, 8-pin eMSOP; PartNumber: LM5111-1MYX; Manufacturer: National Semiconductor; PackageTopMarking: ZXTT*SJKB; PowerWise: N; CompType: Switcher; Published: 1-Mar-2010; DatasheetVersion: Nov-2007; PackageVersion: revA, Nov-2003; PackageReference: MUY08A; Publisher: Altium Limited; PackageDescription: Molded Mini-SO, Exposed Pad, .118 x .118 x .034in Body, 8 Lead, .0256in Pitch; RoHS: N; PinCount: 8; Code_JEDEC: MO-187-AA; ComponentLink1Description: LM5111 Datasheet; ComponentLink1URL: http://www.national.com/ds/LM/LM5111.pdf; ComponentLink2Description: LM5111 Web Page; ComponentLink2URL: http://www.national.com/pf/LM/LM5111.html; ComponentLink3Description: MUY08A Package Page; ComponentLink3URL: http://www.national.com/packaging/folders/muy08a.html
footprint MUY08A_N (TSOP, 8-Leads, Body 3x3mm, Pitch 0.65mm, Exposed Pad, IPC Medium Density)
footprint MUY08A_L (TSOP, 8-Leads, Body 3x3mm, Pitch 0.65mm, Exposed Pad, IPC High Density)
footprint MUY08A_M (TSOP, 8-Leads, Body 3x3mm, Pitch 0.65mm, Exposed Pad, IPC Low Density)
pins: 1 NC, 2 IN_A (power), 3 VEE (power), 4 IN_B (power), 5 OUT_B (power), 6 VCC (power), 7 OUT_A (power), 8 NC, 9 DAP (power)

## LM5111-2M
designator U?
Dual 5A Compound Gate Driver, 8-pin Narrow SOIC; PartNumber: LM5111-2M; Manufacturer: National Semiconductor; PackageTopMarking: NSXYTT*5111*-2M; PowerWise: N; CompType: Switcher; Published: 4-Dec-2008; DatasheetVersion: Nov-2007; PackageVersion: revM, May-2009; PackageReference: M08A; Publisher: Altium Limited; PackageDescription: SOIC Narrow, 4.9 x 3.9 x 1.45mm, 8 Lead, 1.27mm Pitch; Supplier 1: Farnell; Supplier Part Number 1: 8238715; RoHS: N; PinCount: 8; Code_JEDEC: MS-012-AA; Code_IPC: SOIC127P600-8; ComponentLink1Description: LM5111 Datasheet; ComponentLink1URL: http://www.national.com/ds/LM/LM5111.pdf; ComponentLink2Description: LM5111 Web Page; ComponentLink2URL: http://www.national.com/pf/LM/LM5111.html; ComponentLink3Description: M08A Package Page; ComponentLink3URL: http://www.national.com/packaging/folders/m08a.html
footprint M08A_N (SOIC, 8-Leads, Body 4.9x3.9mm, Pitch 1.27mm, IPC Medium Density)
footprint M08A_L (SOIC, 8-Leads, Body 4.9x3.9mm, Pitch 1.27mm, IPC High Density)
footprint M08A_M (SOIC, 8-Leads, Body 4.9x3.9mm, Pitch 1.27mm, IPC Low Density)
pins: 1 NC, 2 IN_A (power), 3 VEE (power), 4 IN_B (power), 5 OUT_B (power), 6 VCC (power), 7 OUT_A (power), 8 NC

## LM5111-2M/NOPB
designator U?
Dual 5A Compound Gate Driver, 8-pin Narrow SOIC, Pb-Free; PartNumber: LM5111-2M/NOPB; Manufacturer: National Semiconductor; PackageTopMarking: NSXYTT*5111*-2M; PowerWise: N; CompType: Switcher; Published: 1-Mar-2010; DatasheetVersion: Nov-2007; PackageVersion: revM, May-2009; PackageReference: M08A; Publisher: Altium Limited; PackageDescription: SOIC Narrow, 4.9 x 3.9 x 1.45mm, 8 Lead, 1.27mm Pitch; Supplier 1: Digi-Key; Supplier Part Number 1: LM5111-2M-ND; Supplier 2: Farnell; Supplier Part Number 2: 1685382; RoHS: Y; PinCount: 8; Code_JEDEC: MS-012-AA; Code_IPC: SOIC127P600-8; ComponentLink1Description: LM5111 Datasheet; ComponentLink1URL: http://www.national.com/ds/LM/LM5111.pdf; ComponentLink2Description: LM5111 Web Page; ComponentLink2URL: http://www.national.com/pf/LM/LM5111.html; ComponentLink3Description: M08A Package Page; ComponentLink3URL: http://www.national.com/packaging/folders/m08a.html
footprint M08A_N (SOIC, 8-Leads, Body 4.9x3.9mm, Pitch 1.27mm, IPC Medium Density)
footprint M08A_L (SOIC, 8-Leads, Body 4.9x3.9mm, Pitch 1.27mm, IPC High Density)
footprint M08A_M (SOIC, 8-Leads, Body 4.9x3.9mm, Pitch 1.27mm, IPC Low Density)
pins: 1 NC, 2 IN_A (power), 3 VEE (power), 4 IN_B (power), 5 OUT_B (power), 6 VCC (power), 7 OUT_A (power), 8 NC

## LM5111-2MX
designator U?
Dual 5A Compound Gate Driver, 8-pin Narrow SOIC; PartNumber: LM5111-2MX; Manufacturer: National Semiconductor; PackageTopMarking: NSZXTT*5111*-2M; PowerWise: N; CompType: Switcher; Published: 4-Dec-2008; DatasheetVersion: Nov-2007; PackageVersion: revM, May-2009; PackageReference: M08A; Publisher: Altium Limited; PackageDescription: SOIC Narrow, 4.9 x 3.9 x 1.45mm, 8 Lead, 1.27mm Pitch; Supplier 1: Digi-Key; Supplier Part Number 1: LM5111-2MX-ND; RoHS: N; PinCount: 8; Code_JEDEC: MS-012-AA; Code_IPC: SOIC127P600-8; ComponentLink1Description: LM5111 Datasheet; ComponentLink1URL: http://www.national.com/ds/LM/LM5111.pdf; ComponentLink2Description: LM5111 Web Page; ComponentLink2URL: http://www.national.com/pf/LM/LM5111.html; ComponentLink3Description: M08A Package Page; ComponentLink3URL: http://www.national.com/packaging/folders/m08a.html
footprint M08A_N (SOIC, 8-Leads, Body 4.9x3.9mm, Pitch 1.27mm, IPC Medium Density)
footprint M08A_L (SOIC, 8-Leads, Body 4.9x3.9mm, Pitch 1.27mm, IPC High Density)
footprint M08A_M (SOIC, 8-Leads, Body 4.9x3.9mm, Pitch 1.27mm, IPC Low Density)
pins: 1 NC, 2 IN_A (power), 3 VEE (power), 4 IN_B (power), 5 OUT_B (power), 6 VCC (power), 7 OUT_A (power), 8 NC

## LM5111-2MY
designator U?
Dual 5A Compound Gate Driver, 8-pin eMSOP; PartNumber: LM5111-2MY; Manufacturer: National Semiconductor; PackageTopMarking: ZXTT*SJLB; PowerWise: N; CompType: Switcher; Published: 4-Dec-2008; DatasheetVersion: Nov-2007; PackageVersion: revA, Nov-2003; PackageReference: MUY08A; Publisher: Altium Limited; PackageDescription: Molded Mini-SO, Exposed Pad, .118 x .118 x .034in Body, 8 Lead, .0256in Pitch; Supplier 1: Farnell; Supplier Part Number 1: 1312594; RoHS: N; PinCount: 8; Code_JEDEC: MO-187-AA; ComponentLink1Description: LM5111 Datasheet; ComponentLink1URL: http://www.national.com/ds/LM/LM5111.pdf; ComponentLink2Description: LM5111 Web Page; ComponentLink2URL: http://www.national.com/pf/LM/LM5111.html; ComponentLink3Description: MUY08A Package Page; ComponentLink3URL: http://www.national.com/packaging/folders/muy08a.html
footprint MUY08A_N (TSOP, 8-Leads, Body 3x3mm, Pitch 0.65mm, Exposed Pad, IPC Medium Density)
footprint MUY08A_L (TSOP, 8-Leads, Body 3x3mm, Pitch 0.65mm, Exposed Pad, IPC High Density)
footprint MUY08A_M (TSOP, 8-Leads, Body 3x3mm, Pitch 0.65mm, Exposed Pad, IPC Low Density)
pins: 1 NC, 2 IN_A (power), 3 VEE (power), 4 IN_B (power), 5 OUT_B (power), 6 VCC (power), 7 OUT_A (power), 8 NC, 9 DAP (power)

## LM5111-2MYX
designator U?
Dual 5A Compound Gate Driver, 8-pin eMSOP; PartNumber: LM5111-2MYX; Manufacturer: National Semiconductor; PackageTopMarking: ZXTT*SJLB; PowerWise: N; CompType: Switcher; Published: 1-Mar-2010; DatasheetVersion: Nov-2007; PackageVersion: revA, Nov-2003; PackageReference: MUY08A; Publisher: Altium Limited; PackageDescription: Molded Mini-SO, Exposed Pad, .118 x .118 x .034in Body, 8 Lead, .0256in Pitch; RoHS: N; PinCount: 8; Code_JEDEC: MO-187-AA; ComponentLink1Description: LM5111 Datasheet; ComponentLink1URL: http://www.national.com/ds/LM/LM5111.pdf; ComponentLink2Description: LM5111 Web Page; ComponentLink2URL: http://www.national.com/pf/LM/LM5111.html; ComponentLink3Description: MUY08A Package Page; ComponentLink3URL: http://www.national.com/packaging/folders/muy08a.html
footprint MUY08A_N (TSOP, 8-Leads, Body 3x3mm, Pitch 0.65mm, Exposed Pad, IPC Medium Density)
footprint MUY08A_L (TSOP, 8-Leads, Body 3x3mm, Pitch 0.65mm, Exposed Pad, IPC High Density)
footprint MUY08A_M (TSOP, 8-Leads, Body 3x3mm, Pitch 0.65mm, Exposed Pad, IPC Low Density)
pins: 1 NC, 2 IN_A (power), 3 VEE (power), 4 IN_B (power), 5 OUT_B (power), 6 VCC (power), 7 OUT_A (power), 8 NC, 9 DAP (power)

## LM5111-3M
designator U?
Dual 5A Compound Gate Driver, 8-pin Narrow SOIC; PartNumber: LM5111-3M; Manufacturer: National Semiconductor; PackageTopMarking: NSXYTT*5111*-3M; PowerWise: N; CompType: Switcher; Published: 4-Dec-2008; DatasheetVersion: Nov-2007; PackageVersion: revM, May-2009; PackageReference: M08A; Publisher: Altium Limited; PackageDescription: SOIC Narrow, 4.9 x 3.9 x 1.45mm, 8 Lead, 1.27mm Pitch; Supplier 1: Farnell; Supplier Part Number 1: 8238723; RoHS: N; PinCount: 8; Code_JEDEC: MS-012-AA; Code_IPC: SOIC127P600-8; ComponentLink1Description: LM5111 Datasheet; ComponentLink1URL: http://www.national.com/ds/LM/LM5111.pdf; ComponentLink2Description: LM5111 Web Page; ComponentLink2URL: http://www.national.com/pf/LM/LM5111.html; ComponentLink3Description: M08A Package Page; ComponentLink3URL: http://www.national.com/packaging/folders/m08a.html
footprint M08A_N (SOIC, 8-Leads, Body 4.9x3.9mm, Pitch 1.27mm, IPC Medium Density)
footprint M08A_L (SOIC, 8-Leads, Body 4.9x3.9mm, Pitch 1.27mm, IPC High Density)
footprint M08A_M (SOIC, 8-Leads, Body 4.9x3.9mm, Pitch 1.27mm, IPC Low Density)
pins: 1 NC, 2 IN_A (power), 3 VEE (power), 4 IN_B (power), 5 OUT_B (power), 6 VCC (power), 7 OUT_A (power), 8 NC

## LM5111-3M/NOPB
designator U?
Dual 5A Compound Gate Driver, 8-pin Narrow SOIC, Pb-Free; PartNumber: LM5111-3M/NOPB; Manufacturer: National Semiconductor; PackageTopMarking: NSXYTT*5111*-3M; PowerWise: N; CompType: Switcher; Published: 1-Mar-2010; DatasheetVersion: Nov-2007; PackageVersion: revM, May-2009; PackageReference: M08A; Publisher: Altium Limited; PackageDescription: SOIC Narrow, 4.9 x 3.9 x 1.45mm, 8 Lead, 1.27mm Pitch; Supplier 1: Digi-Key; Supplier Part Number 1: LM5111-3M-ND; RoHS: Y; PinCount: 8; Code_JEDEC: MS-012-AA; Code_IPC: SOIC127P600-8; ComponentLink1Description: LM5111 Datasheet; ComponentLink1URL: http://www.national.com/ds/LM/LM5111.pdf; ComponentLink2Description: LM5111 Web Page; ComponentLink2URL: http://www.national.com/pf/LM/LM5111.html; ComponentLink3Description: M08A Package Page; ComponentLink3URL: http://www.national.com/packaging/folders/m08a.html
footprint M08A_N (SOIC, 8-Leads, Body 4.9x3.9mm, Pitch 1.27mm, IPC Medium Density)
footprint M08A_L (SOIC, 8-Leads, Body 4.9x3.9mm, Pitch 1.27mm, IPC High Density)
footprint M08A_M (SOIC, 8-Leads, Body 4.9x3.9mm, Pitch 1.27mm, IPC Low Density)
pins: 1 NC, 2 IN_A (power), 3 VEE (power), 4 IN_B (power), 5 OUT_B (power), 6 VCC (power), 7 OUT_A (power), 8 NC

## LM5111-3MX
designator U?
Dual 5A Compound Gate Driver, 8-pin Narrow SOIC; PartNumber: LM5111-3MX; Manufacturer: National Semiconductor; PackageTopMarking: NSZXTT*5111*-3M; PowerWise: N; CompType: Switcher; Published: 4-Dec-2008; DatasheetVersion: Nov-2007; PackageVersion: revM, May-2009; PackageReference: M08A; Publisher: Altium Limited; PackageDescription: SOIC Narrow, 4.9 x 3.9 x 1.45mm, 8 Lead, 1.27mm Pitch; RoHS: N; PinCount: 8; Code_JEDEC: MS-012-AA; Code_IPC: SOIC127P600-8; ComponentLink1Description: LM5111 Datasheet; ComponentLink1URL: http://www.national.com/ds/LM/LM5111.pdf; ComponentLink2Description: LM5111 Web Page; ComponentLink2URL: http://www.national.com/pf/LM/LM5111.html; ComponentLink3Description: M08A Package Page; ComponentLink3URL: http://www.national.com/packaging/folders/m08a.html
footprint M08A_N (SOIC, 8-Leads, Body 4.9x3.9mm, Pitch 1.27mm, IPC Medium Density)
footprint M08A_L (SOIC, 8-Leads, Body 4.9x3.9mm, Pitch 1.27mm, IPC High Density)
footprint M08A_M (SOIC, 8-Leads, Body 4.9x3.9mm, Pitch 1.27mm, IPC Low Density)
pins: 1 NC, 2 IN_A (power), 3 VEE (power), 4 IN_B (power), 5 OUT_B (power), 6 VCC (power), 7 OUT_A (power), 8 NC

## LM5111-3MY
designator U?
Dual 5A Compound Gate Driver, 8-pin eMSOP; PartNumber: LM5111-3MY; Manufacturer: National Semiconductor; PackageTopMarking: ZXTT*SJNB; PowerWise: N; CompType: Switcher; Published: 4-Dec-2008; DatasheetVersion: Nov-2007; PackageVersion: revA, Nov-2003; PackageReference: MUY08A; Publisher: Altium Limited; PackageDescription: Molded Mini-SO, Exposed Pad, .118 x .118 x .034in Body, 8 Lead, .0256in Pitch; Supplier 1: Farnell; Supplier Part Number 1: 1312596; RoHS: N; PinCount: 8; Code_JEDEC: MO-187-AA; ComponentLink1Description: LM5111 Datasheet; ComponentLink1URL: http://www.national.com/ds/LM/LM5111.pdf; ComponentLink2Description: LM5111 Web Page; ComponentLink2URL: http://www.national.com/pf/LM/LM5111.html; ComponentLink3Description: MUY08A Package Page; ComponentLink3URL: http://www.national.com/packaging/folders/muy08a.html
footprint MUY08A_N (TSOP, 8-Leads, Body 3x3mm, Pitch 0.65mm, Exposed Pad, IPC Medium Density)
footprint MUY08A_L (TSOP, 8-Leads, Body 3x3mm, Pitch 0.65mm, Exposed Pad, IPC High Density)
footprint MUY08A_M (TSOP, 8-Leads, Body 3x3mm, Pitch 0.65mm, Exposed Pad, IPC Low Density)
pins: 1 NC, 2 IN_A (power), 3 VEE (power), 4 IN_B (power), 5 OUT_B (power), 6 VCC (power), 7 OUT_A (power), 8 NC, 9 DAP (power)

## LM5111-3MYX
designator U?
Dual 5A Compound Gate Driver, 8-pin eMSOP; PartNumber: LM5111-3MYX; Manufacturer: National Semiconductor; PackageTopMarking: ZXTT*SJNB; PowerWise: N; CompType: Switcher; Published: 1-Mar-2010; DatasheetVersion: Nov-2007; PackageVersion: revA, Nov-2003; PackageReference: MUY08A; Publisher: Altium Limited; PackageDescription: Molded Mini-SO, Exposed Pad, .118 x .118 x .034in Body, 8 Lead, .0256in Pitch; RoHS: N; PinCount: 8; Code_JEDEC: MO-187-AA; ComponentLink1Description: LM5111 Datasheet; ComponentLink1URL: http://www.national.com/ds/LM/LM5111.pdf; ComponentLink2Description: LM5111 Web Page; ComponentLink2URL: http://www.national.com/pf/LM/LM5111.html; ComponentLink3Description: MUY08A Package Page; ComponentLink3URL: http://www.national.com/packaging/folders/muy08a.html
footprint MUY08A_N (TSOP, 8-Leads, Body 3x3mm, Pitch 0.65mm, Exposed Pad, IPC Medium Density)
footprint MUY08A_L (TSOP, 8-Leads, Body 3x3mm, Pitch 0.65mm, Exposed Pad, IPC High Density)
footprint MUY08A_M (TSOP, 8-Leads, Body 3x3mm, Pitch 0.65mm, Exposed Pad, IPC Low Density)
pins: 1 NC, 2 IN_A (power), 3 VEE (power), 4 IN_B (power), 5 OUT_B (power), 6 VCC (power), 7 OUT_A (power), 8 NC, 9 DAP (power)

## LM5111-4M
designator U?
Dual 5A Compound Gate Driver, 8-pin Narrow SOIC; PartNumber: LM5111-4M; Manufacturer: National Semiconductor; PackageTopMarking: NSZXTT*5111*-4M; PowerWise: N; CompType: Switcher; Published: 4-Dec-2008; DatasheetVersion: Nov-2007; PackageVersion: revM, May-2009; PackageReference: M08A; Publisher: Altium Limited; PackageDescription: SOIC Narrow, 4.9 x 3.9 x 1.45mm, 8 Lead, 1.27mm Pitch; Supplier 1: Farnell; Supplier Part Number 1: 1535358; RoHS: Y; PinCount: 8; Code_JEDEC: MS-012-AA; Code_IPC: SOIC127P600-8; ComponentLink1Description: LM5111 Datasheet; ComponentLink1URL: http://www.national.com/ds/LM/LM5111.pdf; ComponentLink2Description: LM5111 Web Page; ComponentLink2URL: http://www.national.com/pf/LM/LM5111.html; ComponentLink3Description: M08A Package Page; ComponentLink3URL: http://www.national.com/packaging/folders/m08a.html
footprint M08A_N (SOIC, 8-Leads, Body 4.9x3.9mm, Pitch 1.27mm, IPC Medium Density)
footprint M08A_L (SOIC, 8-Leads, Body 4.9x3.9mm, Pitch 1.27mm, IPC High Density)
footprint M08A_M (SOIC, 8-Leads, Body 4.9x3.9mm, Pitch 1.27mm, IPC Low Density)
pins: 1 NC, 2 IN_A (power), 3 VEE (power), 4 IN_B (power), 5 OUT_B (power), 6 VCC (power), 7 OUT_A (power), 8 NC

## LM5111-4M/NOPB
designator U?
Dual 5A Compound Gate Driver, 8-pin Narrow SOIC, Pb-Free; PartNumber: LM5111-4M/NOPB; Manufacturer: National Semiconductor; PackageTopMarking: NSZXTT*5111*-4M; PowerWise: N; CompType: Switcher; Published: 1-Mar-2010; DatasheetVersion: Nov-2007; PackageVersion: revM, May-2009; PackageReference: M08A; Publisher: Altium Limited; PackageDescription: SOIC Narrow, 4.9 x 3.9 x 1.45mm, 8 Lead, 1.27mm Pitch; Supplier 1: Digi-Key; Supplier Part Number 1: LM5111-4M-ND; RoHS: Y; PinCount: 8; Code_JEDEC: MS-012-AA; Code_IPC: SOIC127P600-8; ComponentLink1Description: LM5111 Datasheet; ComponentLink1URL: http://www.national.com/ds/LM/LM5111.pdf; ComponentLink2Description: LM5111 Web Page; ComponentLink2URL: http://www.national.com/pf/LM/LM5111.html; ComponentLink3Description: M08A Package Page; ComponentLink3URL: http://www.national.com/packaging/folders/m08a.html
footprint M08A_N (SOIC, 8-Leads, Body 4.9x3.9mm, Pitch 1.27mm, IPC Medium Density)
footprint M08A_L (SOIC, 8-Leads, Body 4.9x3.9mm, Pitch 1.27mm, IPC High Density)
footprint M08A_M (SOIC, 8-Leads, Body 4.9x3.9mm, Pitch 1.27mm, IPC Low Density)
pins: 1 NC, 2 IN_A (power), 3 VEE (power), 4 IN_B (power), 5 OUT_B (power), 6 VCC (power), 7 OUT_A (power), 8 NC

## LM5111-4MX/NOPB
designator U?
Dual 5A Compound Gate Driver, 8-pin Narrow SOIC, Pb-Free; PartNumber: LM5111-4MX/NOPB; Manufacturer: National Semiconductor; PackageTopMarking: NSZXTT*5111*-4M; PowerWise: N; CompType: Switcher; Published: 1-Mar-2010; DatasheetVersion: Nov-2007; PackageVersion: revM, May-2009; PackageReference: M08A; Publisher: Altium Limited; PackageDescription: SOIC Narrow, 4.9 x 3.9 x 1.45mm, 8 Lead, 1.27mm Pitch; Supplier 1: Digi-Key; Supplier Part Number 1: LM5111-4MX-ND; RoHS: Y; PinCount: 8; Code_JEDEC: MS-012-AA; Code_IPC: SOIC127P600-8; ComponentLink1Description: LM5111 Datasheet; ComponentLink1URL: http://www.national.com/ds/LM/LM5111.pdf; ComponentLink2Description: LM5111 Web Page; ComponentLink2URL: http://www.national.com/pf/LM/LM5111.html; ComponentLink3Description: M08A Package Page; ComponentLink3URL: http://www.national.com/packaging/folders/m08a.html
footprint M08A_N (SOIC, 8-Leads, Body 4.9x3.9mm, Pitch 1.27mm, IPC Medium Density)
footprint M08A_L (SOIC, 8-Leads, Body 4.9x3.9mm, Pitch 1.27mm, IPC High Density)
footprint M08A_M (SOIC, 8-Leads, Body 4.9x3.9mm, Pitch 1.27mm, IPC Low Density)
pins: 1 NC, 2 IN_A (power), 3 VEE (power), 4 IN_B (power), 5 OUT_B (power), 6 VCC (power), 7 OUT_A (power), 8 NC